# Altium footprint library CON FLE-105.PcbLib: 1 footprints
Each footprint in its own frame and in the unit in brackets; x right, y up, seen from the top. Pads: shape width x height; smd on the part's side, far side on the other; paste and mask are expansions set on the pad; w line width, h text height; cw(c..) or ccw(c..) is an arc to the next point about the centre after c.
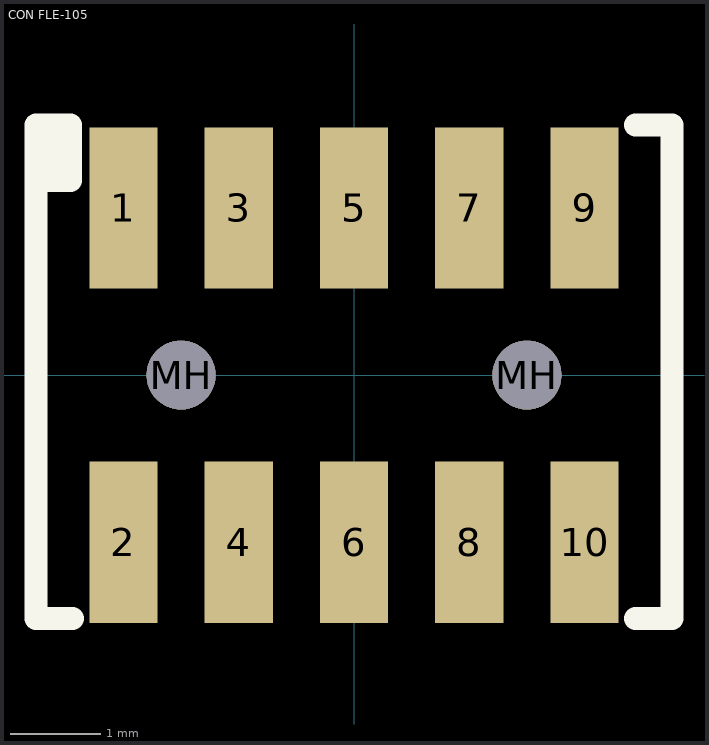
[diagram p0: the footprint, top view; thin cyan lines are the x and y axes]

## CON FLE-105 [mil] "Samtec FLE-105 Surface Mount Connector"
height 78.74
pads (12):
  rect 29.53x70 smd: 1(-100,72.5) 2(-100,-72.5) 3(-50,72.5) 4(-50,-72.5) 5(0,72.5) 6(0,-72.5) 7(50,72.5) 8(50,-72.5) 9(100,72.5) 10(100,-72.5)
  round 30 hole 30 unplated: MH(-75,0) MH(75,0)
TopOverlay:
  lines w10: -130,102.5 -130,92.5 -138,84.5 -123,84.5 -123,108.5 -138,108.5 -138,-105.5 -122,-105.5 ; 122,-105.5 138,-105.5 138,108.5 122,108.5
3D body: height 179.6, standoff 0.6, extent -127.25,-91 127.25,90